# Altium integrated library Resistor 0603 3K9.IntLib: 1 symbol
Pins are listed as number, name and electrical type; pins without a type are passive.

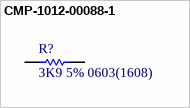
[diagram p0: symbol CMP-1012-00088-1]

## CMP-1012-00088-1
designator R?, comment 3K9 5% 0603(1608)
3K9 0.1W 5% 0603 (1608 Metric)  SMD; Case-EIA: 0603; Value: 3900.00 Ohm; Case-Metric: 1608; Power: 0.1 W; Technology: SMT; Tolerance: 5 %
footprint RESC0603(1608)_L (Chip Resistor, Body 1.6x0.8mm, IPC High Density)
footprint RESC0603(1608)_N (Chip Resistor, Body 1.6x0.8mm, IPC Medium Density)
footprint RESC0603(1608)_M (Chip Resistor, Body 1.6x0.8mm, IPC Low Density)
pins: 1, 2
1 alternate drawing of the same symbol